# Altium footprint library L293D.PcbLib: 1 footprints
Each footprint in its own frame and in the unit in brackets; x right, y up, seen from the top. Pads: shape width x height; smd on the part's side, far side on the other; paste and mask are expansions set on the pad; w line width, h text height; cw(c..) or ccw(c..) is an arc to the next point about the centre after c.

## L293D [mm]
3D body "shield escudo v84.step": height 13.15, standoff -6.64, extent 37.816,-97.663 91.216,-27.663
3D body "Arduino_Mega.STEP": height -1.37, standoff -16.97, extent 37.338,-132.247 91.338,-22.947